# Altium footprint library PcbLib1.PcbLib: 35 footprints (part 3 of 3)
Each footprint in its own frame and in the unit in brackets; x right, y up, seen from the top. Pads: shape width x height; smd on the part's side, far side on the other; paste and mask are expansions set on the pad; w line width, h text height; cw(c..) or ccw(c..) is an arc to the next point about the centre after c.
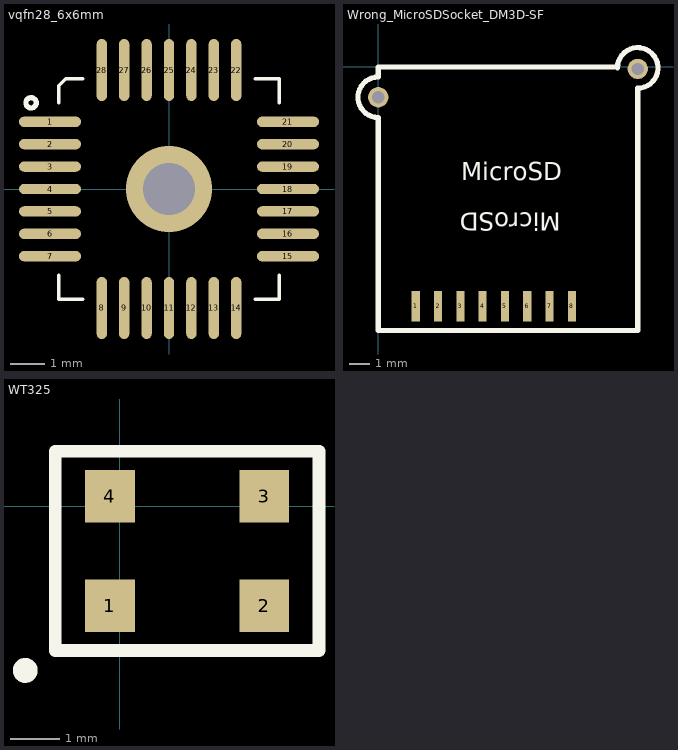
[diagram p2: the footprints below, top view; thin cyan lines are the x and y axes]

## vqfn28_6x6mm [mm] "28 Leads, Body 6.0x6.0mm, Pitch 0.65mm, VQFN28"
height 1
pads (28):
  oval 1.8x0.3 smd mask+0.05: 1(-3.45,1.95) 2(-3.45,1.3) 3(-3.45,0.65) 4(-3.45,0) 5(-3.45,-0.65) 6(-3.45,-1.3) 7(-3.45,-1.95) 15(3.45,-1.95) 16(3.45,-1.3) 17(3.45,-0.65) 18(3.45,0) 19(3.45,0.65) 20(3.45,1.3) 21(3.45,1.95)
  oval 0.3x1.8 smd mask+0.05: 8(-1.95,-3.45) 9(-1.3,-3.45) 10(-0.65,-3.45) 11(0,-3.45) 12(0.65,-3.45) 13(1.3,-3.45) 14(1.95,-3.45) 22(1.95,3.45) 23(1.3,3.45) 24(0.65,3.45) 25(0,3.45) 26(-0.65,3.45) 27(-1.3,3.45) 28(-1.95,3.45)
via 0,0 diameter 2.5 hole 1.5
Top Overlay:
  circle w0.15: c-4,2.5 r0.15
  lines w0.1: -3.2,-2.5 -3.2,-3.2 -2.5,-3.2 ; -3.2,2.5 -3.2,3 -3,3.2 -2.5,3.2 ; 2.5,-3.2 3.2,-3.2 3.2,-2.5 ; 2.5,3.2 3.2,3.2 3.2,2.5
Top Paste:
  region: -0.4,0.4 -0.4,-0.4 0.4,-0.4 0.4,0.4

## Wrong_MicroSDSocket_DM3D-SF [mm]
height 2
pads (10):
  rect 0.4x1.5 smd: 1(1.85,-11.8) 2(2.95,-11.8) 3(4.05,-11.8) 4(5.15,-11.8) 5(6.25,-11.8) 6(7.35,-11.8) 7(8.45,-11.8) 8(9.55,-11.8)
  round 1 hole 0.6: ""(0,-1.5) ""(12.8,-0.1)
Top Overlay:
  lines w0.254: 11.8,-0.05 cw(c12.8,-0.05) 12.8,-1.05 12.8,-13 0,-13 0,-2.5 cw(c0,-1.5) 0,-0.5 0,0 2.5,0 11.8,0
  text "MicroSD" at 9,-6.9 h1.52
  text "MicroSD" at 4.1,-5.9 h1.52

## WT325 [mm]
pads (4):
  rect 1x1.05 smd: 1(-0.2,-2) 2(2.9,-2) 3(2.9,0.2) 4(-0.2,0.2)
Top Overlay:
  circle w0.25: c-1.9,-3.3 r0.125
  lines w0.254: -1.3,-2.9 4,-2.9 4,1.1 -1.3,1.1 -1.3,-2.9